# Altium schematic symbol library ST Power Switch.SchLib: 1 symbol
Pins are listed as number, name and electrical type; pins without a type are passive.

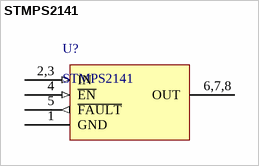
[diagram p0: symbol STMPS2141]

## STMPS2141
designator U?
Enhanced single channel power switch; Manual: http://www.st.com/web/en/resource/technical/document/datasheet/CD00167470.pdf
footprint SOP8
footprint SOP8 (SOP, 8-Leads, Body 4.90x3.90mm, Pitch 1.27mm, IPC Medium Density)
footprint SOP8 (SOP, 8-Leads, Body 4.90x3.90mm, Pitch 1.27mm, IPC Medium Density)
pins: 1 GND (power), 2,3 IN (in), 4 ~{EN} (in), 5 ~{FAULT} (out), 6,7,8 OUT